# Altium schematic symbol library CAP POL 0.1uF 35V.Schlib: 1 symbol
Pins are listed as number, name and electrical type; pins without a type are passive.

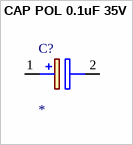
[diagram p0: symbol CAP POL 0.1uF 35V]

## CAP POL 0.1uF 35V
designator C?
0.1µF 35V Aluminum Electrolytic Capacitors Radial, Can - SMD  7000 Hrs @ 105°C
pins: 1 +, 2 -